# EAGLE library part BALUN-2450BM003 (library NordicSemi)
2450BM14E0003 2.45GHz Impedance Matched Balun + Band Pass Filter: Optimized for Nordic's Chipset nRF51822 and nRF51422
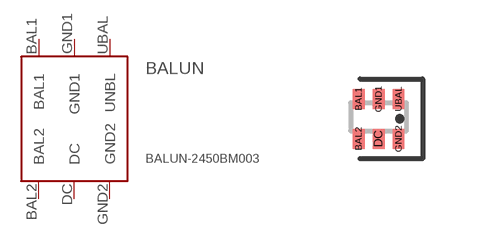
[diagram p4: symbol with the pads of 2450BM14E0003; footprint 2450BM14E0003]

Designator prefix BALUN

## BALUN-2450BM003  [2450BM14E0003]
BAL1  BAL1  in
BAL2  BAL2  in
DC  DC  pwr
GND1  GND1  pwr
GND2  GND2  pwr
UBAL  UNBL  out

## Footprint 2450BM14E0003 (pad centres in mm)
smd 0.3 x 0.5: BAL1 0,0; BAL2 0,-1; DC 0.5,-1; GND1 0.5,0; GND2 1,-1; UBAL 1,0